# EAGLE library part 74*298 (library 74ttl-din-rp)
Quadruple 2-input MULTIPLEXER
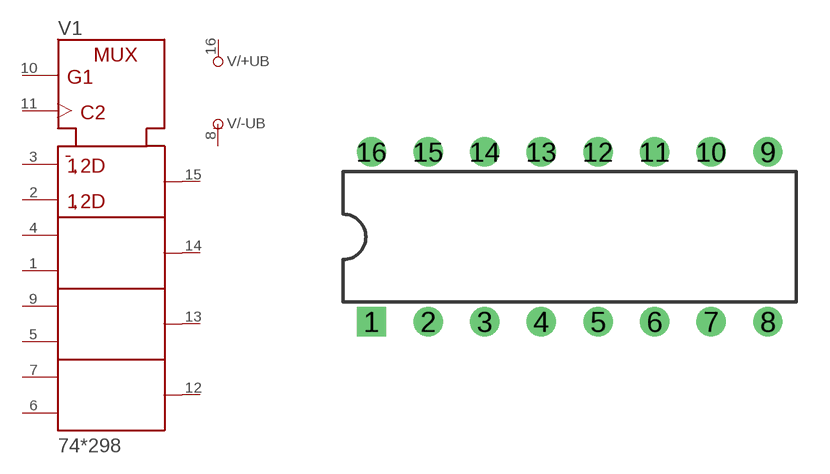
[diagram p82: symbol with the pads of DIL16; footprint DIL16]

Designator prefix V; gates /+UB=+UB /-UB=-UB 1=298

## 74298N  [DIL16]
1  1:B2  in
2  1:A2  in
3  1:A1  in
4  1:B1  in
5  1:C2  in
6  1:D2  in
7  1:D1  in
8  /-UB:-UB  pwr
9  1:C1  in
10  1:WS  in
11  1:CLK  in
12  1:QD  out
13  1:QC  out
14  1:QB  out
15  1:QA  out
16  /+UB:+UB  pwr

## Footprint DIL16 (pad centres in mm)
Dual In Line Package
drill 0.813 square: 1 -8.89,-3.81
drill 0.813: 2 -6.35,-3.81; 3 -3.81,-3.81; 4 -1.27,-3.81; 5 1.27,-3.81; 6 3.81,-3.81; 7 6.35,-3.81; 8 8.89,-3.81; 9 8.89,3.81; 10 6.35,3.81; 11 3.81,3.81; 12 1.27,3.81; 13 -1.27,3.81; 14 -3.81,3.81; 15 -6.35,3.81; 16 -8.89,3.81